# EAGLE library part ATTINY84 (library hannahsEagleLib)
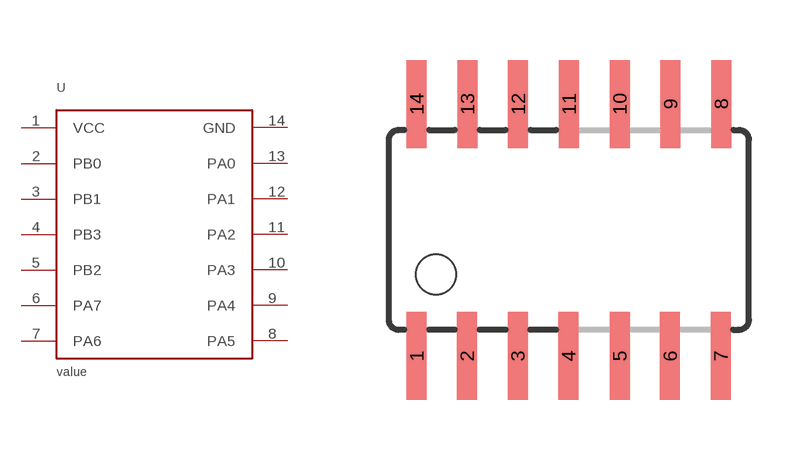
[diagram p0: symbol with the pads of SOIC14; footprint SOIC14]

Designator prefix -

## ATTINY84  [SOIC14]
1  VCC
2  PB0
3  PB1
4  PB3
5  PB2
6  PA7
7  PA6
8  PA5
9  PA4
10  PA3
11  PA2
12  PA1
13  PA0
14  GND

## Footprint SOIC14 (pad centres in mm)
Wide Plastic Gull Wing Small Outline Package
smd 0.5 x 2.2: 1 -1.905,-3.154; 2 -0.645,-3.154; 3 0.625,-3.154; 4 1.895,-3.154; 5 3.175,-3.154; 6 4.435,-3.154; 7 5.705,-3.154; 8 5.715,3.154; 9 4.445,3.154; 10 3.175,3.154; 11 1.905,3.154; 12 0.635,3.154; 13 -0.635,3.154; 14 -1.905,3.154